# Altium footprint library LM7805CTNOPB.PcbLib: 1 footprints
Each footprint in its own frame and in the unit in brackets; x right, y up, seen from the top. Pads: shape width x height; smd on the part's side, far side on the other; paste and mask are expansions set on the pad; w line width, h text height; cw(c..) or ccw(c..) is an arc to the next point about the centre after c.
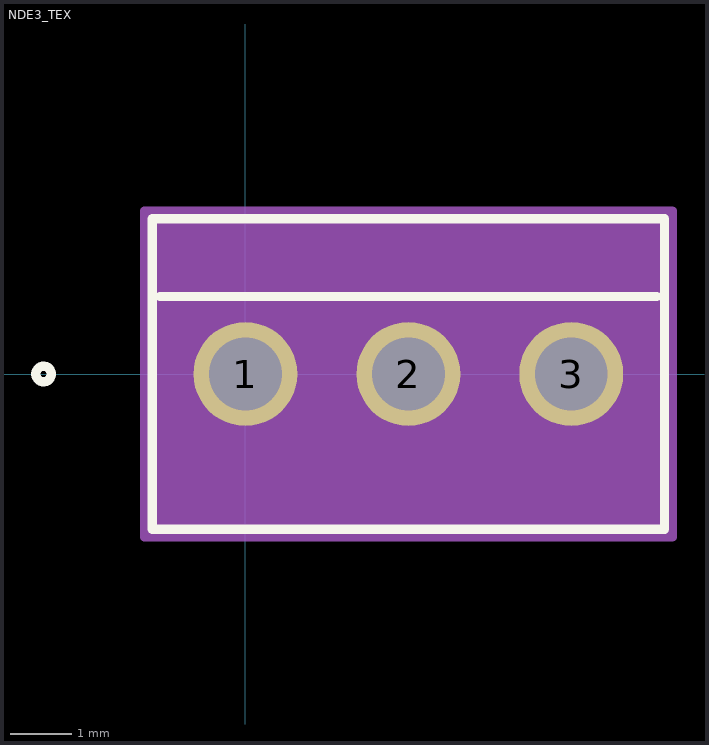
[diagram p0: the footprint, top view; thin cyan lines are the x and y axes]

## NDE3_TEX [mil]
pads (3):
  round 67 hole 47 paste-33.5 mask+0: 1(0,0) 2(105,0) 3(210,0)
Top Overlay:
  circle w6: c-130.04,0 r5
  lines w6: -55.04,50 265.04,50 ; -60.04,-100 270.04,-100 270.04,100 -60.04,100 -60.04,-100
  text ".Designator" at -32.5,-25 h50
Mechanical 13:
  circle w1: c-45.04,0 r5
  lines w1: -55.04,45 265.04,45 ; -55.04,-95 265.04,-95 265.04,95 -55.04,95 -55.04,-95
  text ".Designator" at -32.5,-25 h50
  text "TAB" at 86.25,57.5 h25
Mechanical 15:
  region: 275.04,105 -65.04,105 -65.04,-105 275.04,-105
  lines w6: -65.04,-105 -65.04,105 275.04,105 275.04,-105 -65.04,-105
3D body "NDE3_TEX.step": height 420, standoff -247.99, extent -55.04,-95 265.04,95